# Altium footprint library TRANSFORMER_LAN.PcbLib: 1 footprints
Each footprint in its own frame and in the unit in brackets; x right, y up, seen from the top. Pads: shape width x height; smd on the part's side, far side on the other; paste and mask are expansions set on the pad; w line width, h text height; cw(c..) or ccw(c..) is an arc to the next point about the centre after c.
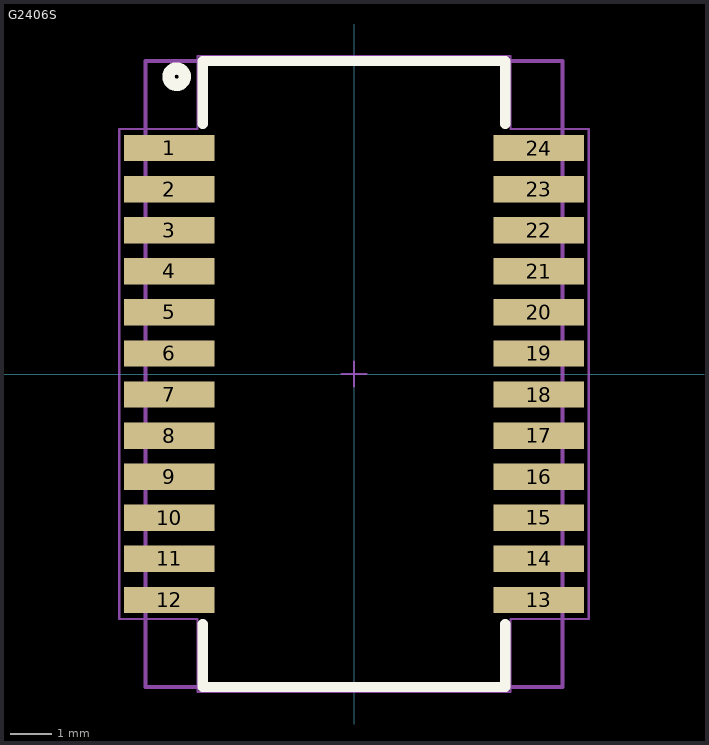
[diagram p0: the footprint, top view; thin cyan lines are the x and y axes]

## G2406S [mm]
pads (24):
  rect 2.2x0.64 smd: 1(-4.5,5.5) 2(-4.5,4.5) 3(-4.5,3.5) 4(-4.5,2.5) 5(-4.5,1.5) 6(-4.5,0.5) 7(-4.5,-0.5) 8(-4.5,-1.5) 9(-4.5,-2.5) 10(-4.5,-3.5) 11(-4.5,-4.5) 12(-4.5,-5.5) 13(4.5,-5.5) 14(4.5,-4.5) 15(4.5,-3.5) 16(4.5,-2.5) 17(4.5,-1.5) 18(4.5,-0.5) 19(4.5,0.5) 20(4.5,1.5) 21(4.5,2.5) 22(4.5,3.5) 23(4.5,4.5) 24(4.5,5.5)
Top Overlay:
  circle w0.3: c-4.318,7.239 r0.2
  lines w0.25: -3.683,-6.096 -3.683,-7.62 3.683,-7.62 3.683,-6.096 ; -3.683,6.096 -3.683,7.62 3.683,7.62 3.683,6.096
Mechanical 13:
  lines w0.1: -5.08,-7.62 5.08,-7.62 5.08,7.62 -5.08,7.62 -5.08,-7.62
Mechanical 15:
  lines w0.05: -0.3,0 0.3,0 ; 0,-0.3 0,0.3 ; -5.715,-5.969 -5.715,5.969 -3.81,5.969 -3.81,7.747 3.81,7.747 3.81,5.969 5.715,5.969 5.715,-5.969 3.81,-5.969 3.81,-7.747 -3.81,-7.747 -3.81,-5.969 -5.715,-5.969
3D body "SMD-24_L15.1-W7.1-P1.00-LS10.0-BL.step": height 4.5, standoff 0, extent -5,-7.55 5,7.55